# Altium schematic symbol library esd_library.SchLib: 42 symbols
Pins are listed as number, name and electrical type; pins without a type are passive.

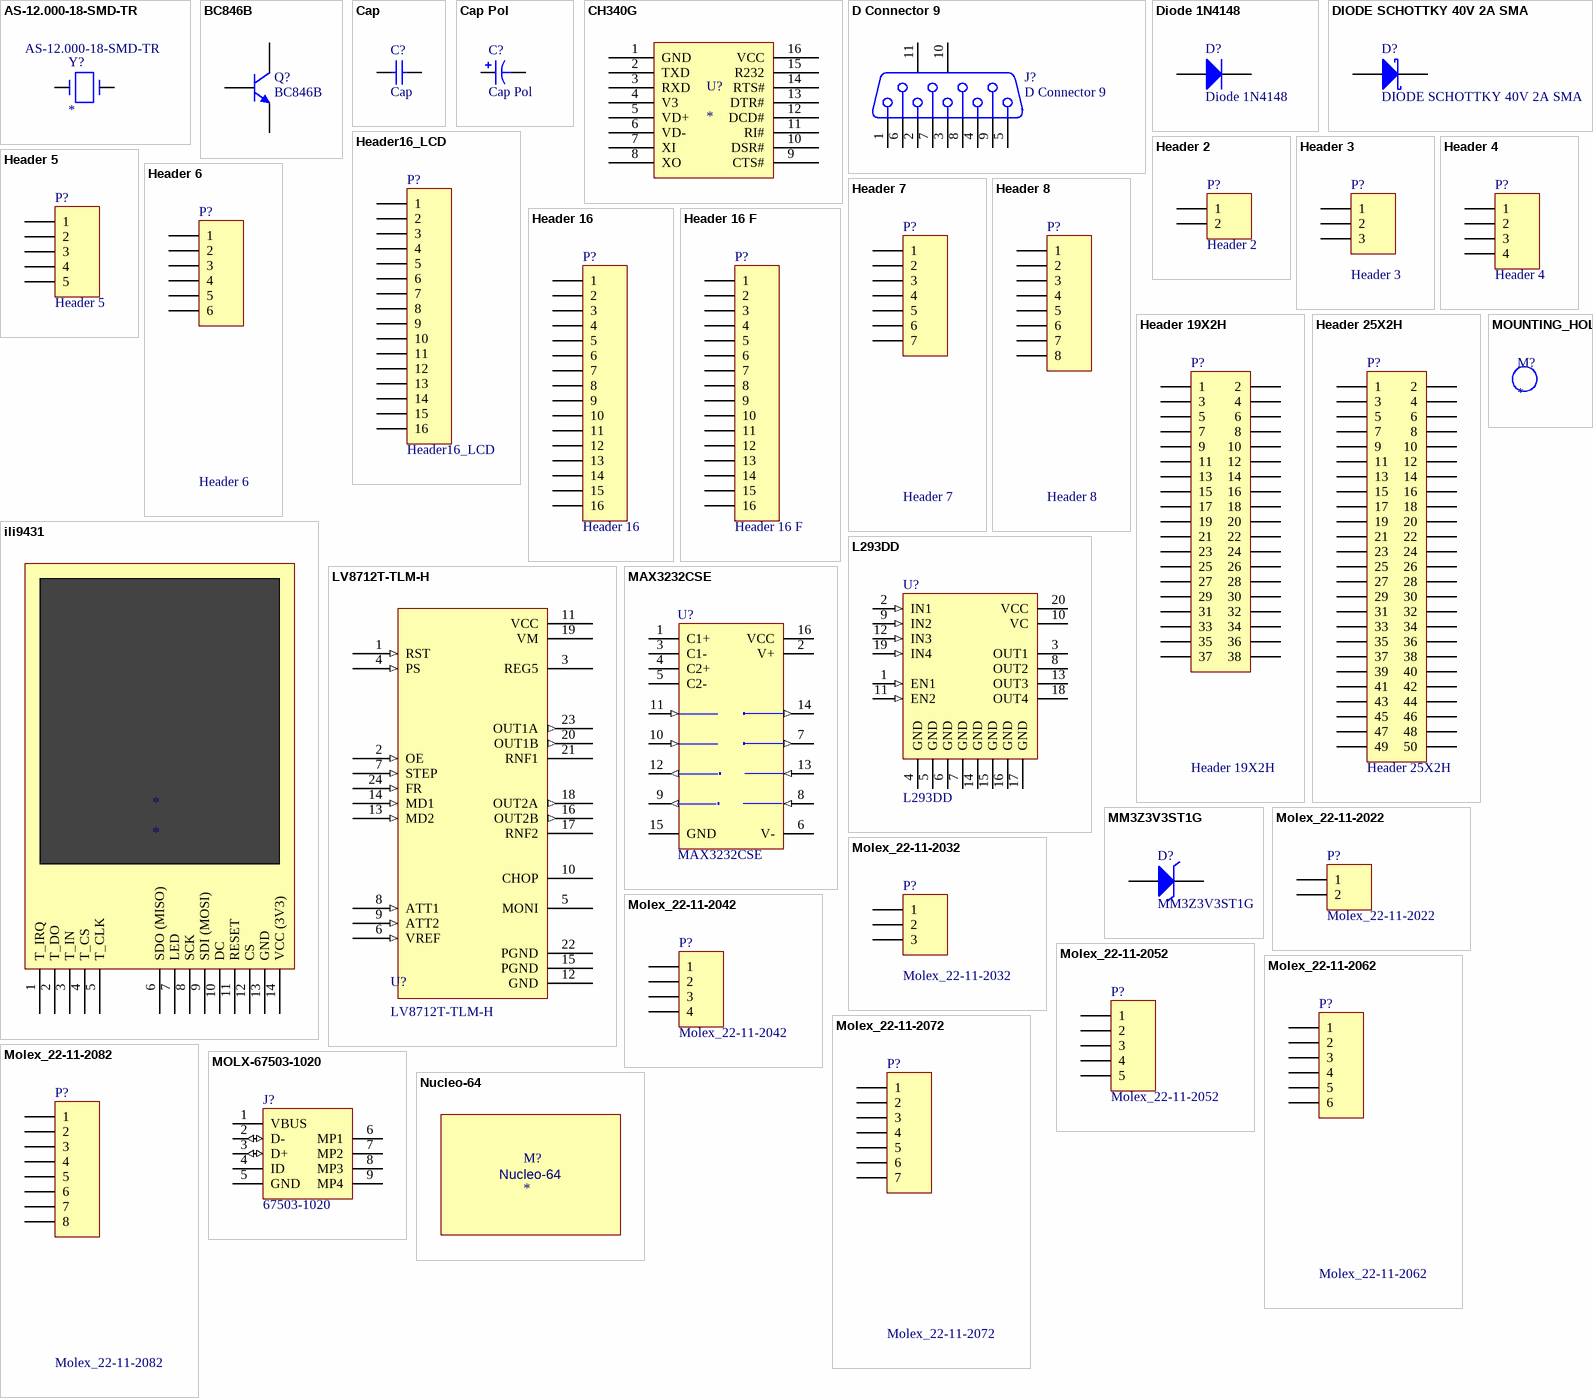
[diagram p0: symbols AS-12.000-18-SMD-TR to Nucleo-64]

## AS-12.000-18-SMD-TR
designator Y?  MPN: AS-12.000-18-SMD-TR
CRYSTAL 12.0000MHZ 18PF SMD; PN: 2151-AS-12.000-18-SMD-TRCT-ND; URL: https://www.digikey.ca/en/products/detail/raltron-electronics/AS-12-000-18-SMD-TR/10271753
footprint HCS-49/U (SMD, 2-Leads, Body 11.4x4.7mm)
pins: 1, 2

## BC846B
designator Q?
TRANS NPN 65V 0.1A SOT23; MPN: BC846BLT3G; PN: BC846BLT3GOSCT-ND; URL: https://www.digikey.ca/product-detail/en/on-semiconductor/BC846BLT3G/BC846BLT3GOSCT-ND
footprint SOT95P230X110-3M (SOT23, 3-Leads, Body 2.90x2.30mm, Pitch 0.95mm, IPC Low Density)
pins: 1 B, 2 E, 3 C

## Cap
designator C?
Capacitor
pins: 1, 2

## Cap Pol
designator C?
Polarized Capacitor
pins: 1, 2
1 alternate drawing of the same symbol

## CH340G
designator U?
USB to serial chip; PN: CH340G; MPN: CH340G; URL: https://www.mpja.com/download/35227cpdata.pdf
footprint NSO16_L (SOIC, 16-Leads, Body 9.9x3.9mm, Pitch 1.27mm, IPC High Density)
pins: 1 GND, 2 TXD, 3 RXD, 4 V3, 5 VD+, 6 VD-, 7 XI, 8 XO, 9 CTS#, 10 DSR#, 11 RI#, 12 DCD#, 13 DTR#, 14 RTS#, 15 R232, 16 VCC

## D Connector 9
designator J?
Receptacle Assembly, 9 Position, Right Angle; MPN: ADF09A-KG-TASB3-R; PN: AE10921-ND; URL: http://www.digikey.ca/product-detail/en/ADF09A-KG-TASB3-R/AE10921-ND
footprint DSUB1.385-2H9 (Connector; D Subminiature; 9 Position; Right Angle; Pitch 1.385 mm)
signal-integrity model Connector
pins: 1, 2, 3, 4, 5, 6, 7, 8, 9, 10 MH1, 11 MH2

## Diode 1N4148
designator D?
High Conductance Fast Diode; MPN: 1N4148WX-TP; PN: 1N4148WXTPMSCT-ND; URL: http://www.digikey.ca/product-detail/en/1N4148WX-TP/1N4148WXTPMSCT-ND
signal-integrity model 1N4148
footprint zener_sod323
pins: A, K

## DIODE SCHOTTKY 40V 2A SMA
designator D?
Schottky Rectifier; MPN: B240A-13-F; PN: B240A-FDICT-ND; URL: http://www.digikey.ca/product-detail/en/B240A-13-F/B240A-FDICT-ND
footprint DIOM4326X23M (Molded Diode, 2-Leads, Body 4.30x2.60mm, IPC Low Density)
pins: 1 K, 2 A

## Header16_LCD
designator P?
Header, 16-Pin Female; MPN: PPPC161LFBN-RC; PN: S7049-ND; URL: http://www.digikey.ca/product-detail/en/PPPC161LFBN-RC/S7049-ND
signal-integrity model Connector
footprint HDR1X16_LCD (Connector; Header; 16 Position, For LCD)
pins: 1, 2, 3, 4, 5, 6, 7, 8, 9, 10, 11, 12, 13, 14, 15, 16

## Header 2
designator P?
Header, 2-Pin Male; MPN: PEC02SFAN; PN: S1212E-02-ND; URL: http://www.digikey.ca/product-detail/en/PEC04SFAN/S1212E-02-ND
footprint HDR1X2 (Connector; Header; 2 Position)
pins: 1, 2

## Header 3
designator P?
Header, 3-Pin Male; MPN: PEC03SFAN; PN: S1212E-03-ND; URL: http://www.digikey.ca/product-detail/en/PEC03SFAN/S1212E-03-ND
footprint HDR1X3 (Connector; Header; 3 Position)
pins: 1, 2, 3

## Header 4
designator P?
Header, 4-Pin Male; MPN: PEC04SFAN; PN: S1212E-04-ND; URL: http://www.digikey.ca/product-detail/en/PEC04SFAN/S1212E-04-ND
footprint HDR1X4 (Connector; Header; 4 Position)
pins: 1, 2, 3, 4

## Header 5
designator P?
Header, 5-Pin Male; MPN: PEC05SFAN; PN: S1212E-05-ND; URL: http://www.digikey.ca/product-detail/en/PEC05SFAN/S1212E-05-ND/859446
footprint HDR1X5 (Connector; Header; 5 Position)
pins: 1, 2, 3, 4, 5

## Header 6
designator P?
Header, 6-Pin Male; MPN: PEC06SFAN; PN: S1212E-06-ND; URL: http://www.digikey.ca/product-detail/en/PEC06SFAN/S1212E-06-ND
footprint HDR1X6 (Connector; Header; 6 Position)
pins: 1, 2, 3, 4, 5, 6

## Header 7
designator P?
Header, 7-Pin Male; MPN: PEC07SFAN; PN: S1212E-07-ND; URL: http://www.digikey.ca/product-detail/en/PEC07SFAN/S1212E-07-ND
footprint HDR1X7 (Connector; Header; 16 Position)
pins: 1, 2, 3, 4, 5, 6, 7

## Header 8
designator P?
Header, 8-Pin Male; MPN: PEC08SFAN; PN: S1212E-08-ND; URL: http://www.digikey.ca/product-detail/en/PEC08SFAN/S1212E-08-ND
footprint HDR1X8 (Connector; Header; 16 Position)
pins: 1, 2, 3, 4, 5, 6, 7, 8

## Header 16
designator P?
Header, 16-Pin Male; MPN: PEC16SFAN; PN: S1212E-16-ND; URL: http://www.digikey.ca/product-detail/en/PEC16SFAN/S1212E-16-ND
footprint HDR1X16 (Connector; Header; 16 Position)
pins: 1, 2, 3, 4, 5, 6, 7, 8, 9, 10, 11, 12, 13, 14, 15, 16

## Header 16 F
designator P?
Header, 16-Pin Female; MPN: PPPC161LFBN-RC; PN: S7049-ND; URL: http://www.digikey.ca/product-detail/en/PPPC161LFBN-RC/S7049-ND
footprint HDR1X16F (Connector; Header; 16 Position, Female)
pins: 1, 2, 3, 4, 5, 6, 7, 8, 9, 10, 11, 12, 13, 14, 15, 16

## Header 19X2H
designator P?
38 Position Header Connector 0.100in (2.54mm) Through Hole Gold; MPN: PPPC192LFBN-RC; PN: S7122-ND; URL: https://www.digikey.ca/product-detail/en/sullins-connector-solutions/PPPC192LFBN-RC/S7122-ND
signal-integrity model Connector
footprint PPPC192LFBN-RC (38 Position Header Connector 0.100" (2.54mm) Through Hole Gold)
pins: 1, 2, 3, 4, 5, 6, 7, 8, 9, 10, 11, 12, 13, 14, 15, 16, 17, 18, 19, 20, 21, 22, 23, 24, 25, 26, 27, 28, 29, 30, 31, 32, 33, 34, 35, 36, 37, 38

## Header 25X2H
designator P?
Header, 25-Pin, Dual row, female; MPN: PPPC252LFBN-RC; PN: S7128-ND; URL: http://www.digikey.ca/product-detail/en/PPPC252LFBN-RC/S7128-ND
signal-integrity model Connector
footprint PPPC252LFBN-RC (Connector; Header; 25x2 Position, Large pads)
pins: 1, 2, 3, 4, 5, 6, 7, 8, 9, 10, 11, 12, 13, 14, 15, 16, 17, 18, 19, 20, 21, 22, 23, 24, 25, 26, 27, 28, 29, 30, 31, 32, 33, 34, 35, 36, 37, 38, 39, 40, 41, 42, 43, 44, 45, 46, 47, 48, 49, 50

## ili9431
designator *
footprint ILI9431 (Footprint not found)
pins: 1 T_IRQ, 2 T_DO, 3 T_IN, 4 T_CS, 5 T_CLK, 6 SDO (MISO), 7 LED, 8 SCK, 9 SDI (MOSI), 10 DC, 11 RESET, 12 CS, 13 GND, 14 VCC (3V3)

## L293DD
designator U?
IC MOTOR DRIVER PAR 20-SOIC; MPN: L293DD013TR; PN: 497-2937-1-ND; Published: 8-Jun-2000; LatestRevisionDate: 13-Apr-2006; LatestRevisionNote: IPC-7351 Footprint Added.; DatasheetVersion: Jun-1996; PackageVersion: Jul-2001; PackageReference: SO20; Publisher: Altium Limited; PackageDescription: 20-Pin Plastic Small Outline Integrated Circuit 1.27 mm Pitch; Code_JEDEC: MS-013-AC; Code_IPC: SOIC127P1030-20; ComponentLink1Description: Manufacturer Link; ComponentLink1URL: http://www.st.com/; ComponentLink2Description: Datasheet; ComponentLink2URL: http://www.st.com/stonline/products/literature/ds/1330/l293d.pdf; URL: http://www.digikey.ca/product-detail/en/L293DD013TR/497-2937-1-ND
footprint SO20_N (SOIC, 20-Leads, Body 12.8x7.5mm, Pitch 1.27mm, IPC Medium Density)
footprint SO20_L (SOIC, 20-Leads, Body 12.8x7.5mm, Pitch 1.27mm, IPC High Density)
footprint SO20_M (SOIC, 20-Leads, Body 12.8x7.5mm, Pitch 1.27mm, IPC Low Density)
3D model SO20 (PCB3D Model)
pins: 1 EN1 (in), 2 IN1 (in), 3 OUT1 (hiz), 4 GND (power), 5 GND (power), 6 GND (power), 7 GND (power), 8 OUT2 (hiz), 9 IN2 (in), 10 VC (power), 11 EN2 (in), 12 IN3 (in), 13 OUT3 (hiz), 14 GND (power), 15 GND (power), 16 GND (power), 17 GND (power), 18 OUT4 (hiz), 19 IN4 (in), 20 VCC (power)

## LV8712T-TLM-H
designator U?
IC MOTOR DRIVER PAR 24TSSOP; PN: 869-1290-1-ND; URL: http://www.digikey.ca/product-detail/en/on-semiconductor/LV8712T-TLM-H/869-1290-1-ND; MPN: LV8712T-TLM-H
footprint ONSEMITSSOP50P640X120-24M (On Semi TSSOP, 24-Leads, Body 6.50x4.40mm, Pitch 0.50mm, IPC Low Density)
pins: 1 RST (in), 2 OE (in), 3 REG5 (power), 4 PS (in), 5 MONI (oc), 6 VREF (in), 7 STEP (in), 8 ATT1 (in), 9 ATT2 (in), 10 CHOP, 11 VCC (power), 12 GND (power), 13 MD2 (in), 14 MD1 (in), 15 PGND (power), 16 OUT2B (out), 17 RNF2, 18 OUT2A (out), 19 VM (power), 20 OUT1B (out), 21 RNF1, 22 PGND (power), 23 OUT1A (out), 24 FR (in)

## MAX3232CSE
designator U?
3.0V TO 5.5V, Low-Power, up to 1Mbps, True RS-232 Transceiver Using Four 0.1µF External Capacitor; MPN: MAX3232CSE+; PN: MAX3232CSE+-ND; Published: 16-Jan-2001; LatestRevisionDate: 13-Apr-2006; LatestRevisionNote: IPC-7351 Footprint Added.; DatasheetVersion: Mar-1999; PackageReference: NSO16; Publisher: Altium Limited; PackageDescription: 16-Pin Small Outline Integrated Circuit 1.27 mm Pitch; Code_JEDEC: MS-012-AC; Code_IPC: SOIC127P600-16; ComponentLink1Description: Manufacturer Link; ComponentLink1URL: http://www.maxim-ic.com/; ComponentLink2Description: Datasheet; ComponentLink2URL: http://pdfserv.maxim-ic.com/en/ds/MAX3222-MAX3241.pdf; URL: http://www.digikey.ca/product-detail/en/MAX3232CSE%2B/MAX3232CSE%2B-ND
footprint NSO16_N (SOIC, 16-Leads, Body 9.9x3.9mm, Pitch 1.27mm, IPC Medium Density)
footprint NSO16_L (SOIC, 16-Leads, Body 9.9x3.9mm, Pitch 1.27mm, IPC High Density)
footprint NSO16_M (SOIC, 16-Leads, Body 9.9x3.9mm, Pitch 1.27mm, IPC Low Density)
3D model NSO16 (PCB3D Model)
pins: 1 C1+, 2 V+ (power), 3 C1-, 4 C2+, 5 C2-, 6 V- (power), 7 T2OUT (out), 8 R2IN (in), 9 R2OUT (out), 10 T2IN (in), 11 T1IN (in), 12 R1OUT (out), 13 R1IN (in), 14 T1OUT (out), 15 GND (power), 16 VCC (power)

## MM3Z3V3ST1G
designator D?
3.3V, 200mw Zener; PN: MM3Z3V3ST1GOSCT-ND; URL: http://www.digikey.ca/product-detail/en/MM3Z3V3ST1G/MM3Z3V3ST1GOSCT-ND/2705113
signal-integrity model Diode
footprint zener_sod323
pins: A, K

## Molex_22-11-2022
designator P?
CONN HEADER 2POS .100 VERT GOLD; MPN: 0022112022; PN: WM2700-ND; URL: http://www.digikey.ca/product-detail/en/0022112022/WM2700-ND
footprint MOLEX-22-11-2022 (CONN HEADER 2POS .100 VERT GOLD)
pins: 1, 2

## Molex_22-11-2032
designator P?
CONN HEADER 3POS .100 VERT GOLD; MPN: 0022112032; PN: WM2701-ND; URL: http://www.digikey.ca/product-detail/en/0022112032/WM2701-ND
footprint MOLEX_22-11-2032 (CONN HEADER 3POS .100 VERT GOLD)
pins: 1, 2, 3

## Molex_22-11-2042
designator P?
CONN HEADER 4POS .100 VERT GOLD; MPN: 0022112042; PN: WM2702-ND; URL: http://www.digikey.ca/product-detail/en/0022112042/WM2702-ND
footprint MOLEX-22-11-2042 (CONN HEADER 4POS .100 VERT GOLD)
pins: 1, 2, 3, 4

## Molex_22-11-2052
designator P?
CONN HEADER 5POS .100 VERT GOLD; MPN: 0022112052; PN: WM2703-ND; URL: http://www.digikey.ca/product-detail/en/0022112052/WM2703-ND
footprint MOLEX_22-11-2052 (CONN HEADER 5POS .100 VERT GOLD)
pins: 1, 2, 3, 4, 5

## Molex_22-11-2062
designator P?
CONN HEADER 6POS .100 VERT GOLD; MPN: 0022112062; PN: WM2704-ND; URL: http://www.digikey.ca/product-detail/en/0022112062/WM2704-ND
footprint MOLEX_22-11-2062 (CONN HEADER 6POS .100 VERT GOLD)
pins: 1, 2, 3, 4, 5, 6

## Molex_22-11-2072
designator P?
CONN HEADER 7POS .100 VERT GOLD; PN: WM2705-ND; URL: http://www.digikey.ca/product-detail/en/22-11-2072/WM2705-ND; MPN: 22-11-2072
footprint MOLEX_22-11-2072 (CONN HEADER 7POS .100 VERT GOLD)
pins: 1, 2, 3, 4, 5, 6, 7

## Molex_22-11-2082
designator P?
CONN HEADER 8POS .100 VERT GOLD; MPN: 0022112082; PN: WM2706-ND; URL: http://www.digikey.ca/product-detail/en/0022112082/WM2706-ND
footprint MOLEX_22-11-2082 (CONN HEADER 8POS .100 VERT GOLD)
pins: 1, 2, 3, 4, 5, 6, 7, 8

## MOLX-67503-1020
designator J?, comment 67503-1020
USB, MINI, SMD, RA KME04-USBMU03A01; Manufacturer: Molex; ComponentLink1URL: http://www.molex.com/; PartNumber: 67503-1020; Mounting Technology: Surface Mount; ComponentLink1Description: Manufacturer URL; Terminal Pitch: 0.8 mm; DatasheetVersion: Rev F, 06/2009; ComponentLink2Description: Datasheet; PackageDescription: Mini USB Connector, SMT, Righer Angle; ComponentLink2URL: http://www.molex.com/pdm_docs/sd/675031020_sd.pdf; PackageReference: 67503-1020
footprint MOLX-67503-1020_V (Mini USB Connector, SMT, Righer Angle)
pins: 1 VBUS (power), 2 D- (io), 3 D+ (io), 4 ID, 5 GND (power), 6 MP1, 7 MP2, 8 MP3, 9 MP4

## MOUNTING_HOLE
designator M?
Mounting Hole
footprint MOUNTING_HOLE

## Nucleo-64
designator M?
Nucleo-64 Board Model
footprint NUCLEO_64 (Nucleo 64 Placeholder)

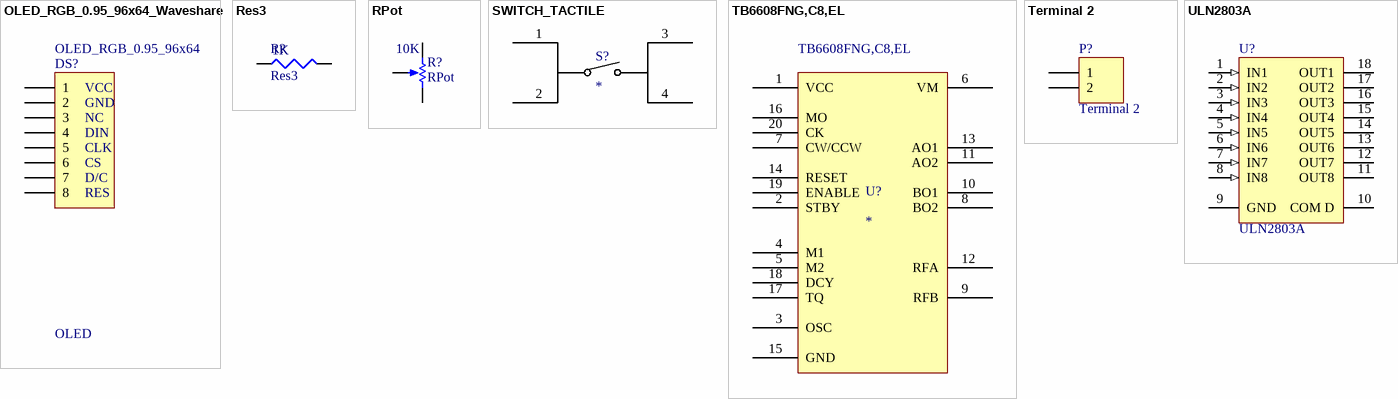
[diagram p1: symbols OLED_RGB_0.95_96x64_Waveshare to ULN2803A]

## OLED_RGB_0.95_96x64_Waveshare
designator DS?, comment OLED
Waveshare 0.95 inch OLED Module; MPN: PPPC081LFBN-RC; PN: S7041-ND; URL: https://www.digikey.ca/en/products/detail/sullins-connector-solutions/PPPC081LFBN-RC/810180
footprint OLED_RGB_0.95_96x64_Waveshare
pins: 1, 2, 3, 4, 5, 6, 7, 8
text: OLED_RGB_0.95_96x64; VCC; GND; NC; DIN; CLK; CS; D/C; RES

## Res3
designator R?  value 1K
Resistor
footprint RESC2112X05M (Chip Resistor, 2-Leads, Body 2.05x1.25mm, IPC Low Density)
pins: 1, 2

## RPot
designator R?  value 10K
POT 10K OHM THUMBWHEEL CERM ST; MPN: 3352T-1-103LF; Sim Note: Enter the Resistance value and the set point into parameter fields.; Set Position: 0.5; PN: 3352T-103LF-ND; Published: 8-Jun-2000; LatestRevisionDate: 17-Jul-2002; LatestRevisionNote: Re-released for DXP Platform.; PackageReference: VR5; Publisher: Altium Limited; PackageDescription: Variable Resistor, Thru-Hole; 3 Leads; URL: http://www.digikey.ca/product-detail/en/3352T-1-103LF/3352T-103LF-ND
footprint BOURNS_3386F (Top Adjust Trimpot)
pins: 1 TOP, 2 TAP, 3 BOT
1 alternate drawing of the same symbol

## SWITCH_TACTILE
designator S?
SWITCH TACTILE SPST-NO 0.05A 12V; MPN: PTS645SH50SMTR92 LFS; PN: CKN9085CT-ND; URL: http://www.digikey.ca/product-detail/en/PTS645SH50SMTR92%20LFS/CKN9085CT-ND
footprint TACT_SWITCH_6MM_SMT
pins: 1, 2, 3, 4

## TB6608FNG,C8,EL
designator U?  MPN: TB6608FNG,C8,EL
IC MTR DRV BIPLR 2.7-5.5V 20SSOP; PN: TB6608FNGC8ELCT-ND; URL: https://www.digikey.ca/en/products/detail/toshiba-semiconductor-and-storage/TB6608FNG-C8-EL/1730074
footprint TSOP65P640X160-20M (TSOP, 20-Leads, Body 6.85x4.40mm, Pitch 0.65mm, IPC Low Density)
pins: 1 VCC, 2 STBY, 3 OSC, 4 M1, 5 M2, 6 VM, 7 CW/CCW, 8 BO2, 9 RFB, 10 BO1, 11 AO2, 12 RFA, 13 AO1, 14 RESET, 15 GND, 16 MO, 17 TQ, 18 DCY, 19 ENABLE, 20 CK

## Terminal 2
designator P?
Terminal, 2-Pin; MPN: 282841-2; PN: A98342-ND; LatestRevisionDate: 17-Jul-2002; LatestRevisionNote: Re-released for DXP Platform.; Publisher: Altium Limited; URL: http://www.digikey.ca/product-detail/en/282841-2/A98342-ND/1136740
signal-integrity model Connector
footprint TYCO_282841_2
pins: 1, 2

## ULN2803A
designator U?
Eight Darlington Array; PN: ULN2803AFWGCELCT-ND; Published: 8-Jun-2000; LatestRevisionDate: 06-Jun-2005; LatestRevisionNote: Stylized 3D Model Added.; DatasheetVersion: Sep-1997; PackageReference: DIP18; Publisher: Altium Limited; PackageDescription: DIP; 18 Leads; Row Spacing 7.62 mm; Pitch 2.54 mm; ComponentLink1Description: Manufacturer Link; ComponentLink1URL: http://www.st.com/; ComponentLink2Description: Datasheet; ComponentLink2URL: http://www.st.com/stonline/products/literature/ds/1536/uln2801a.pdf; URL: http://www.digikey.ca/product-detail/en/ULN2803AFWG,C,EL/ULN2803AFWGCELCT-ND/2183710
footprint SOIC127P1030X260-18M (SOIC, 18-Leads, Body 11.51x7.50mm, Pitch 1.27mm, IPC Low Density)
pins: 1 IN1 (in), 2 IN2 (in), 3 IN3 (in), 4 IN4 (in), 5 IN5 (in), 6 IN6 (in), 7 IN7 (in), 8 IN8 (in), 9 GND (power), 10 COM D, 11 OUT8 (oc), 12 OUT7 (oc), 13 OUT6 (oc), 14 OUT5 (oc), 15 OUT4 (oc), 16 OUT3 (oc), 17 OUT2 (oc), 18 OUT1 (oc)